# EAGLE library part LT3477 (library sc_usercreated)
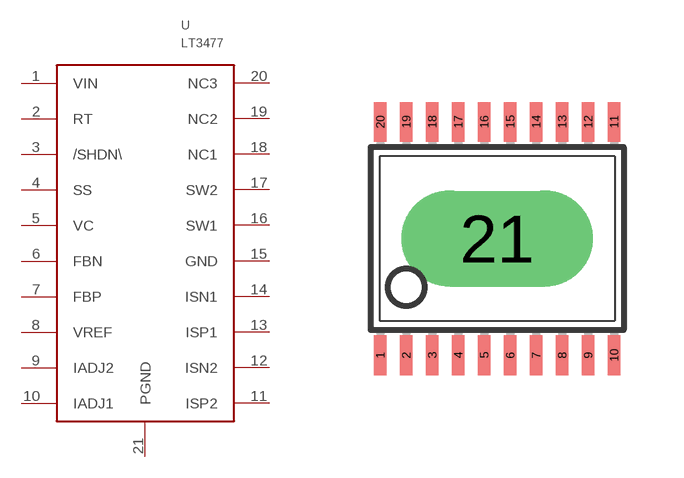
[diagram p5: symbol with the pads of TSSOP20; footprint TSSOP20]

Designator prefix U

## LT3477  [TSSOP20]
1  VIN
2  RT
3  /SHDN\
4  SS
5  VC
6  FBN
7  FBP
8  VREF
9  IADJ2
10  IADJ1
11  ISP2
12  ISN2
13  ISP1
14  ISN1
15  GND
16  SW1
17  SW2
18  NC1
19  NC2
20  NC3
21  PGND

## Footprint TSSOP20 (pad centres in mm)
smd 0.305 x 0.991: 1 -2.925,-2.918; 2 -2.275,-2.918; 3 -1.625,-2.918; 4 -0.975,-2.918; 5 -0.325,-2.918; 6 0.325,-2.918; 7 0.975,-2.918; 8 1.625,-2.918; 9 2.275,-2.918; 10 2.925,-2.918; 11 2.925,2.918; 12 2.275,2.918; 13 1.625,2.918; 14 0.975,2.918; 15 0.325,2.918; 16 -0.325,2.918; 17 -0.975,2.918; 18 -1.625,2.918; 19 -2.275,2.918; 20 -2.925,2.918
drill 1.6 long: 21 0,0